# Altium schematic symbol library TYPE-C16PIN.SchLib: 2 symbols
Pins are listed as number, name and electrical type; pins without a type are passive.

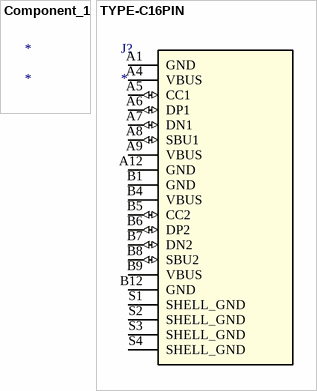
[diagram p0: symbols Component_1 to TYPE-C16PIN]

## Component_1
designator *

## TYPE-C16PIN
designator J?
No Description Available; Mfr_Name: SHOU HAN; Type: USB, DVI, HDMI, Connectors; RefDes: RefDes
footprint CONN16_C16PIN_SHN
pins: A1 GND (power), A4 VBUS (power), A5 CC1 (io), A6 DP1 (io), A7 DN1 (io), A8 SBU1 (io), A9 VBUS (power), A12 GND (power), B1 GND (power), B4 VBUS (power), B5 CC2 (io), B6 DP2 (io), B7 DN2 (io), B8 SBU2 (io), B9 VBUS (power), B12 GND (power), S1 SHELL_GND (power), S2 SHELL_GND (power), S3 SHELL_GND (power), S4 SHELL_GND (power)